# Altium schematic symbol library CMR_Miscellaneous_Devices.SchLib: 110 symbols
Pins are listed as number, name and electrical type; pins without a type are passive.

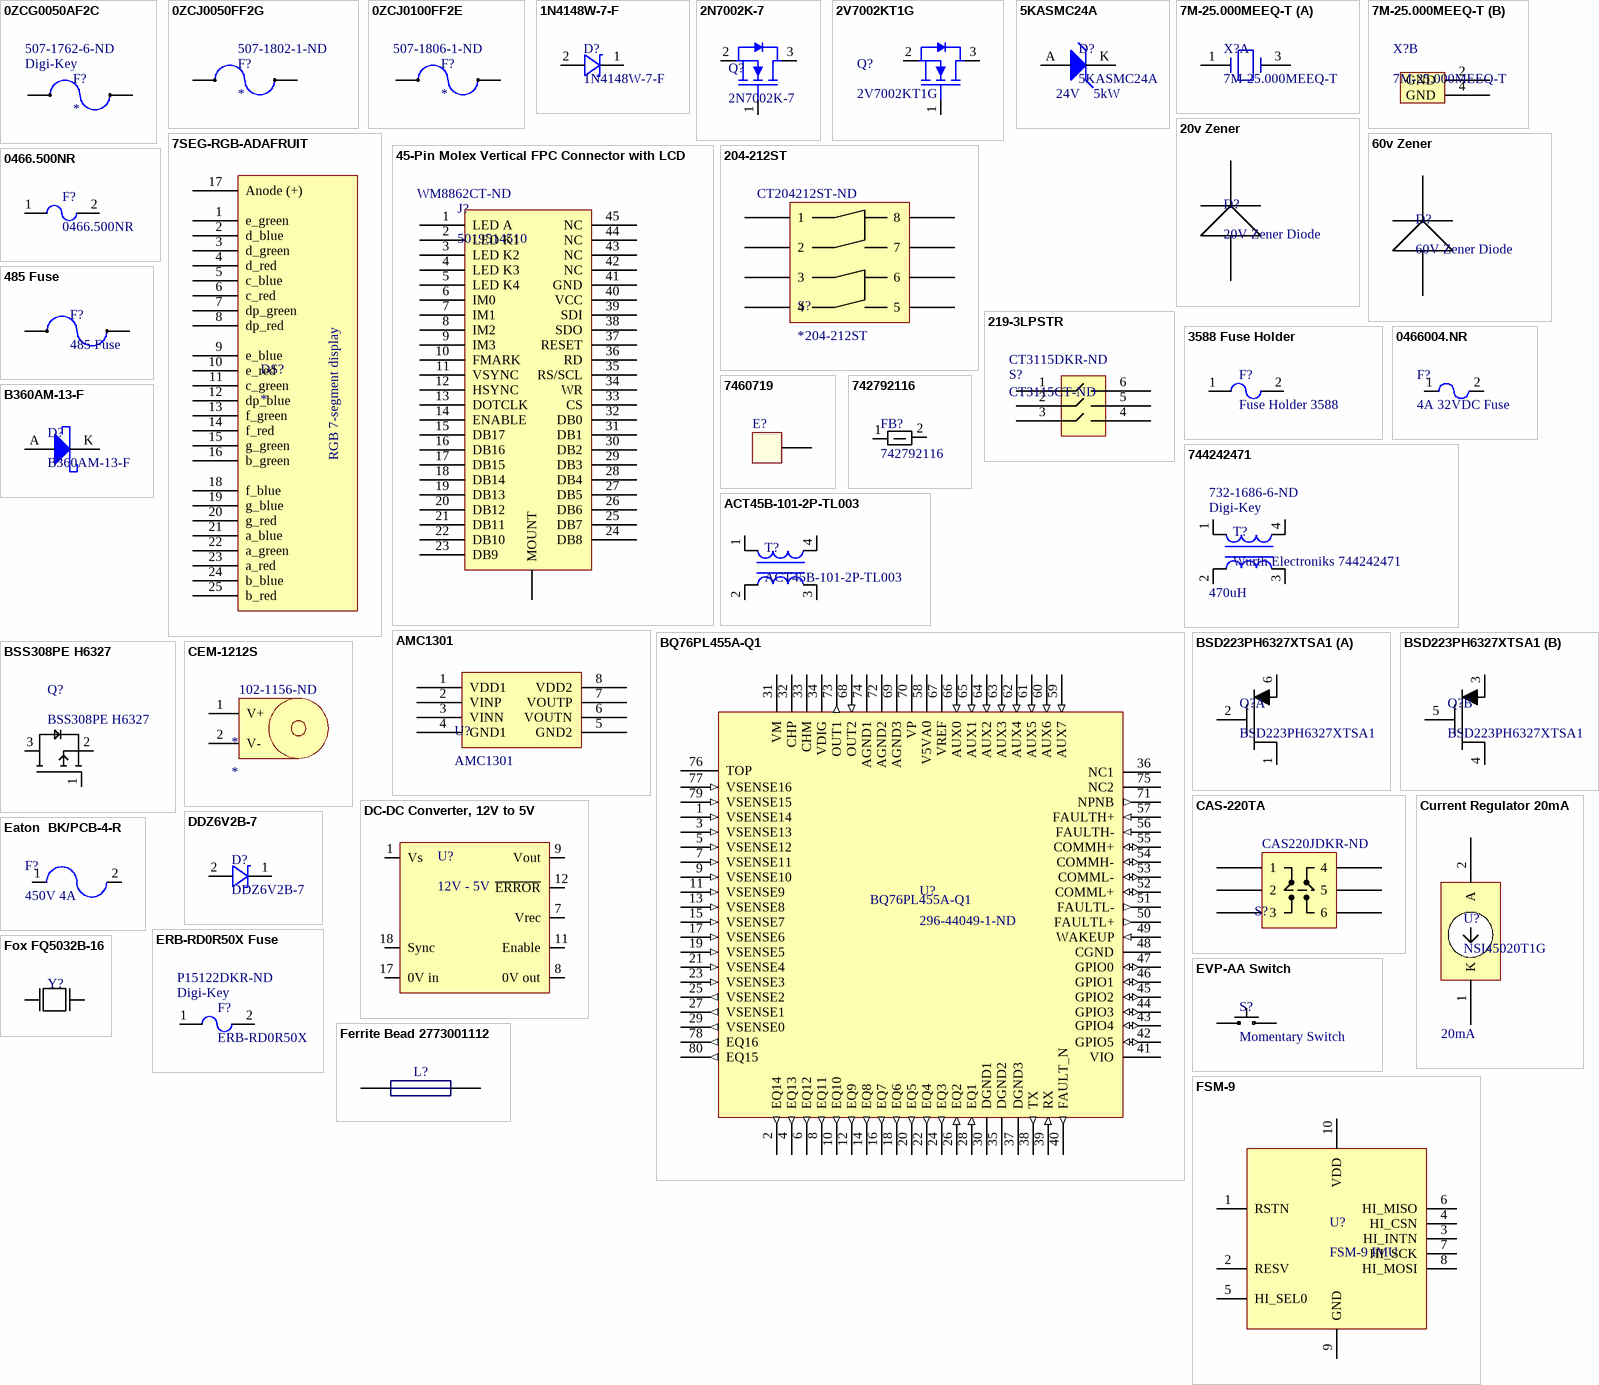
[diagram p0: symbols 0ZCG0050AF2C to FSM-9]

## 0ZCG0050AF2C
designator F?  Supplier 1: Digi-Key  Supplier Part Number 1: 507-1762-6-ND
PTC RESET FUSE 30V 500MA 1812; ComponentLink1Description: Digikey Link; ComponentLink1URL: https://www.digikey.com/product-detail/en/bel-fuse-inc/0ZCG0050AF2C/507-1762-1-ND/4156148
footprint 1812 Resistor Package
pins: 1, 2

## 0ZCJ0050FF2G
designator F?  Supplier Part Number 1: 507-1802-1-ND
PTC RESTTBLE 0.50A 8V CHIP 1206; Supplier 1: Digi-Key
footprint FUSE 3217X06N (PTC Resettable Fuse 8V Ih Surface Mount 1206 (3216 Metric), Concave)
pins: 1, 2

## 0ZCJ0100FF2E
designator F?  Supplier Part Number 1: 507-1806-1-ND
PTC RESTTBLE 1.0A 6V CHIP 1206; Supplier 1: Digi-Key
footprint FUSE 3217X06N (PTC Resettable Fuse 8V Ih Surface Mount 1206 (3216 Metric), Concave)
pins: 1, 2

## 1N4148W-7-F
designator D?
DIODE GEN PURP 100V 300MA SOD123; Supplier: DigiKey; Part Number: 1N4148W-7-F; Supplier Part Number: 1N4148W-FDICT-ND; Datasheet URL: https://www.diodes.com/assets/Datasheets/ds30086.pdf
footprint 1N4148W-7-F
pins: 1 NPNB, 2 NPNB

## 2N7002K-7
designator Q?
MOSFET N-CH 60V 0.38A SOT23-3; Supplier: Digikey; Part Number: 2N7002K-7; Supplier Part Number: 2N7002K-7DICT-ND; Datasheet URL: https://www.diodes.com/assets/Datasheets/ds30896.pdf
footprint 2N7002K-7 (MOSFET N-CH 60V 0.38A SOT23-3)
pins: 1, 2, 3

## 2V7002KT1G
designator Q?
MOSFET N-CH 60V 320MA SOT-23-3; Supplier: DigiKey; Supplier Part Number: 2V7002KT1GOSCT-ND; Part Number: 2V7002KT1G; Datasheet URL: www.mouser.com/ds/2/308/2N7002K-D-40616.pdf
footprint 2V7002KT1G
pins: 1, 2, 3

## 5KASMC24A
designator D?  Power - Peak Pulse: 5kW  Reverse Standoff Voltage: 24V
TVS Diode, Vbr~=28V, 5000W; Supplier 1: Digi-Key; Supplier Part Number 1: 5KASMC24AHM3/57GICT-ND; Datasheet: http://www.vishay.com/docs/89432/5kasmc.pdf
footprint 5KASMC24A
pins: A, K

## 7M-25.000MEEQ-T
designator X?
CRYSTAL 25.0000MHZ 10PF SMD; Manufacturer 1: TXC; Frequency: 25MHz; Frequency Tolerance: 10ppm; ESR (Equivalent Series Resistance): 60R; Supplier 1: Digi-Key; Supplier Part Number 1: 887-1326-1-ND; Manufacturer Part Number 1: 7M-25.000MEEQ-T; Stock 1: 17097; Pricing 1: 1=1.27, 10=1.209, 50=1.1812, 100=1.0125, 500=0.9844, 1000=0.8297 (USD); Mount: Surface Mount; Case/Package: SMD/SMT; Number of Pins: 4; Min Operating Temperature: -20°C; Max Operating Temperature: 70°C; Load Capacitance: 10pF; Packaging: Tape and Reel; Package Quantity: 3000; Tolerance: 10ppm; Frequency Stability: 10ppm; Termination: SMD/SMT; Length: 3.2mm; Height: 0.031inch; Width: 0.098inch; Depth: 2.5mm; REACH SVHC: No SVHC; ComponentLink1URL: https://datasheet.ciiva.com/26918/getdatasheetpartid-757227-26918816.pdf; ComponentLink1Description: https://datasheet.ciiva.com/26918/getdatasheetpartid-757227-26918816.pdf; ComponentLink2URL: https://datasheet.ciiva.com/856/7m-accuracy-856022.pdf; ComponentLink2Description: https://datasheet.ciiva.com/856/7m-accuracy-856022.pdf; ComponentLink3URL: https://datasheet.ciiva.com/22658/1794111-22658486.pdf; ComponentLink3Description: https://datasheet.ciiva.com/22658/1794111-22658486.pdf; ComponentLink4URL: https://datasheet.ciiva.com/856/7m-accuracy-856023.pdf; ComponentLink4Description: https://datasheet.ciiva.com/856/7m-accuracy-856023.pdf; ComponentLink5URL: https://datasheet.ciiva.com/856/7m-accuracy-856024.pdf; ComponentLink5Description: https://datasheet.ciiva.com/856/7m-accuracy-856024.pdf; ComponentLink6URL: https://datasheet.ciiva.com/4946/7m-11184-4946126.pdf; ComponentLink6Description: https://datasheet.ciiva.com/4946/7m-11184-4946126.pdf; ComponentLink7URL: https://datasheet.ciiva.com/28498/1794111-28498878.pdf; ComponentLink7Description: https://datasheet.ciiva.com/28498/1794111-28498878.pdf
footprint OSCSC320X250X100N
part A pins: 1 11, 3
part B pins: 2 GND, 4 GND

## 7SEG-RGB-ADAFRUIT
designator DS?
footprint 7SEG-RGB-ADAFRUIT
pins: 1 e_green, 2 d_blue, 3 d_green, 4 d_red, 5 c_blue, 6 c_red, 7 dp_green, 8 dp_red, 9 e_blue, 10 e_red, 11 c_green, 12 dp_blue, 13 f_green, 14 f_red, 15 g_green, 16 b_green, 17 Anode (+), 18 f_blue, 19 g_blue, 20 g_red, 21 a_blue, 22 a_green, 23 a_red, 24 b_blue, 25 b_red
text: RGB 7-segment display

## 20v Zener
designator D?, comment 20V Zener Diode
footprint UDZS20B (20v Zener)
pins: 1, 2

## 45-Pin Molex Vertical FPC Connector with LCD
designator J?, comment 5019514510  Supplier Part Number 1: WM8862CT-ND
45 pin Molex, 0.50mm pitch, with LCD Display; Manufacturer Part Number: 0541044531; LCD Manufacturer: Displaytech; LCD Manufacturer Part Number: DT028ATFT; Manufacturer: Molex; Datasheet: http://www.molex.com/pdm_docs/sd/541044631_sd.pdf; LCD Datasheet: http://www.mouser.com/ds/2/116/DT028ATFT-v21-221378.pdf; Supplier 1: Digi-Key
footprint LCD Display with FPC Connector (2.8" Displaytech DT028ATFT LCD Display with Molex 0541044531 Right Angle 45-pin FPC Connector)
pins: 0 MOUNT, 1 LED A, 2 LED K1, 3 LED K2, 4 LED K3, 5 LED K4, 6 IM0, 7 IM1, 8 IM2, 9 IM3, 10 FMARK, 11 VSYNC, 12 HSYNC, 13 DOTCLK, 14 ENABLE, 15 DB17, 16 DB16, 17 DB15, 18 DB14, 19 DB13, 20 DB12, 21 DB11, 22 DB10, 23 DB9, 24 DB8, 25 DB7, 26 DB6, 27 DB5, 28 DB4, 29 DB3, 30 DB2, 31 DB1, 32 DB0, 33 CS, 34 WR, 35 RS/SCL, 36 RD, 37 RESET, 38 SDO, 39 SDI, 40 VCC, 41 GND, 42 NC, 43 NC, 44 NC, 45 NC

## 60v Zener
designator D?, comment 60V Zener Diode
footprint MMSZ5264BT1G (60v Zener)
pins: 1, 2

## 204-212ST
designator S?  Supplier Part Number 1: CT204212ST-ND
SWITCH SLIDE DIP DPST 50MA 24V; Supplier 1: Digi-Key
footprint 204-212ST  2 POS DPST (Dip Switch DPST 2 Position Surface Mount Slide (Standard) Actuator 50mA 24VDC)
pins: 1, 2, 3, 4, 5, 6, 7, 8

## 219-3LPSTR
designator S?, comment CT3115CT-ND  Supplier Part Number 1: CT3115DKR-ND
SWITCH SLIDE DIP SPST 100MA 20V; Supplier 1: Digi-Key
footprint 219-3LPSTR (SWITCH SLIDE DIP SPST 100MA 20V)
pins: 1, 2, 3, 4, 5, 6

## 0466.500NR
designator F?
FUSE BOARD MOUNT 500MA 63VAC/VDC; Supplier: DigiKey; Part Number: 0466.500NR; Supplier Part Number: F1454CT-ND; Datasheet URL: http://www.littelfuse.com/~/media/electronics/datasheets/fuses/littelfuse_fuse_466_datasheet.pdf.pdf
footprint 0466.500NR (, 2-Leads, Body 3.18x1.52mm, IPC Medium Density)
pins: 1, 2

## 485 Fuse
designator F?
485 Series Fast-Blow Fuse; Part Number: 0485001.DR; Voltage Rating: 600V; Current Rating: 1A; Datasheet: http://www.littelfuse.com/~/media/electronics/datasheets/fuses/littelfuse_fuse_485_datasheet.pdf.pdf; Package: 2-SMD
footprint 485 Fuse (485 Series Fast-Blow Fuse)
pins: 1, 2

## 3588 Fuse Holder
designator F?, comment Fuse Holder 3588
Keystone Electronics 3588; Supplier 1: Digi-Key; Supplier Part Number 1: 36-3588-ND; Datasheet: http://keyelco.com/userAssets/file/M65p43.pdf
footprint Fuse Holder 3588 (Keystone Electronics 3588 Automotive Blade Fuse Holder, SMT)
pins: 1, 2

## 0466004.NR
designator F?, comment 4A 32VDC Fuse
FUSE BOARD MNT 4A 32VAC/VDC 1206; ComponentLink1Description: Digikey; ComponentLink1URL: https://www.digikey.com/product-detail/en/littelfuse-inc/0466004.NR/F1459CT-ND/521357
footprint CAF-127P152X317-2N (Chip Array, Flat, 2-Leads, Pitch 1.27mm,  Body 1.52x3.18mm,  IPC Medium Density)
pins: 1, 2

## 7460719
designator E?
REDCUBE PRESS-FIT with external thread, full plain WP-SHFU, M8, 13 mm; Part Number: 7460719; Pin Number: 25; Rated Current: 250 A; Thread Length: 13 mm; ComponentLink1Description: Manufacturer; ComponentLink1URL: http://www.we-online.de; ComponentLink2Description: Datasheet; ComponentLink2URL: http://katalog.we-online.de/em/datasheet/7460719.pdf; Published Date: Feb. 2017; Publisher: Wurth Elektronik; Thread: M8
footprint 7460719 (M8, thread 13mm)
pins: 1

## 742792116
designator FB?
FERRITE BEAD 500 OHM 1206 1LN; Datasheet URL: media.digikey.com/PDF/Data Sheets/Wurth Electronics PDFs/742792116.pdf; Supplier: DigiKey; Supplier Part Number: 732-4652-1-ND; Part Number: 742792116
footprint 742792116 (, 2-Leads, Body 3.20x1.60mm, IPC Medium Density)
pins: 1, 2

## 744242471
designator T?, comment Wurth Electroniks 744242471  Inductance: 470uH  Supplier 1: Digi-Key  Supplier Part Number 1: 732-1686-6-ND
470µH @ 100kHz 2 Line Common Mode Choke Surface Mount 2.2 kOhms @ 15MHz 400mA DCR 350 mOhm; ComponentLink1Description: Digikey Link; ComponentLink1URL: https://www.digikey.com/product-detail/en/wurth-electronics-inc/744242471/732-1686-1-ND/1994266; ComponentLink2Description: Datasheet Link; ComponentLink2URL: https://katalog.we-online.de/pbs/datasheet/744242471.pdf
footprint Wurth 744242471
pins: 1, 2, 3, 4

## ACT45B-101-2P-TL003
designator T?
Common Mode Chokes / Filters 5000ohms 100uH 150mA CAN-BUS AEC-Q200; Supplier: DigiKey; Supplier Part Number: 445-3959-1-ND; Part Number: ACT45B-101-2P-TL003; Datasheet URL: www.mouser.com/ds/2/400/e9711_act-469477.pdf
footprint ACT45B-101-2P-TL003 (DFN, 4-Leads, Body 3.20x4.50mm, Pitch 4.55mm, IPC Medium Density)
pins: 1, 2, 3, 4

## AMC1301
designator U?
IC AMP ISOLATION 250MV 8SOIC; Supplier 1: Digi-Key; Supplier Part Number 1: 296-44577-2-ND
footprint SOIC127P1150X280-8N (SOIC, 8-Leads, Body 5.85x7.50mm, Pitch 1.27mm, IPC Medium Density)
pins: 1 VDD1, 2 VINP, 3 VINN, 4 GND1, 5 GND2, 6 VOUTN, 7 VOUTP, 8 VDD2

## B360AM-13-F
designator D?
Schottky Diode B360AM-13-F; Datasheet: http://diodes.com/_files/datasheets/B360AM.pdf; Supplier 1: Digi-Key; Supplier Part Number 1: B360AM-13-FDICT-ND
footprint B360AM-13-F
pins: A, K

## BQ76PL455A-Q1
designator U?, comment 296-44049-1-ND
IC BATT MONITOR/PROTECT 80TQFP; Part Number: BQ76PL455ATPFCRQ1; Supplier: DigiKey; Datasheet URL: http://www.ti.com/lit/ds/symlink/bq76pl455a-q1.pdf; Design Recommendations: http://www.ti.com/lit/an/slua791/slua791.pdf; Supplier Part Number: 6-44049-1-ND
footprint BQ76PL455A-Q1 (TSQFP, 80-Leads, Body 12.00x12.00mm, Pitch 0.50mm, IPC Medium Density)
pins: 1 VSENSE14 (in), 2 EQ14 (out), 3 VSENSE13 (in), 4 EQ13 (out), 5 VSENSE12 (in), 6 EQ12 (out), 7 VSENSE11 (in), 8 EQ11 (out), 9 VSENSE10 (in), 10 EQ10 (out), 11 VSENSE9 (in), 12 EQ9 (out), 13 VSENSE8 (in), 14 EQ8 (out), 15 VSENSE7 (in), 16 EQ7 (out), 17 VSENSE6 (in), 18 EQ6 (out), 19 VSENSE5 (in), 20 EQ5 (out), 21 VSENSE4 (in), 22 EQ4 (out), 23 VSENSE3 (in), 24 EQ3 (out), 25 VSENSE2 (out), 26 EQ2 (in), 27 VSENSE1 (out), 28 EQ1 (in), 29 VSENSE0 (out), 30 DGND1 (power), 31 VM (power), 32 CHP (power), 33 CHM (power), 34 VDIG (power), 35 DGND2 (power), 36 NC1, 37 DGND3 (power), 38 TX (out), 39 RX (in), 40 FAULT_N (out), 41 VIO (power), 42 GPIO5 (io), 43 GPIO4 (io), 44 GPIO3 (io), 45 GPIO2 (io), 46 GPIO1 (io), 47 GPIO0 (io), 48 CGND (power), 49 WAKEUP (in), 50 FAULTL+ (out), 51 FAULTL- (out), 52 COMML+ (io), 53 COMML- (io), 54 COMMH- (io), 55 COMMH+ (io), 56 FAULTH- (in), 57 FAULTH+ (in), 58 V5VA0 (power), 59 AUX7 (in), 60 AUX6 (in), 61 AUX5 (in), 62 AUX4 (in), 63 AUX3 (in), 64 AUX2 (in), 65 AUX1 (in), 66 AUX0 (in), 67 VREF (power), 68 OUT2 (in), 69 AGND3 (power), 70 VP (power), 71 NPNB (out), 72 AGND2 (power), 73 OUT1 (out), 74 AGND1 (power), 75 NC2, 76 TOP (power), 77 VSENSE16 (in), 78 EQ16 (out), 79 VSENSE15 (in), 80 EQ15 (out)

## BSD223PH6327XTSA1
designator Q?
dual p-channel mosfet; Manufacturer 1: Infineon; Drain to Source Voltage (Vdss): -20V; Continuous Drain Current (ID): 390mA; Rds On Max: 1.2R; Input Capacitance: 56pF; Max Power Dissipation: 250mW; Turn-On Delay Time: 3.8ns; Rise Time: 5ns; Turn-Off Delay Time: 5.1ns; Gate to Source Voltage (Vgs): 12V; Supplier 1: Digi-Key; Supplier Part Number 1: BSD223PH6327XTSA1CT-ND; Manufacturer Part Number 1: BSD223PH6327XTSA1; Stock 1: 77806; Pricing 1: 1=0.56, 10=0.398, 100=0.2615, 500=0.1545, 1000=0.1189 (USD); Mount: Surface Mount; Case/Package: SOT-363; Number of Pins: 6; Min Operating Temperature: -55°C; Max Operating Temperature: 150°C; Packaging: Tape and Reel; Drain to Source Resistance: 1.2R; Max Dual Supply Voltage: -20V; Length: 2mm; Height: 0.8mm; Width: 1.25mm; Lead Free: Lead Free; Halogen Free: Halogen Free; ComponentLink1URL: http://www.farnell.com/datasheets/2211530.pdf; ComponentLink1Description: http://www.farnell.com/datasheets/2211530.pdf; ComponentLink2URL: http://components.arrow.com/part/dataview/53770121S151981N2051; ComponentLink2Description: http://components.arrow.com/part/dataview/53770121S151981N2051; ComponentLink3URL: https://www.infineon.com/dgdl/BSD223P_Rev1.5.pdf?folderId=db3a304314dca38901154a72e3951a65&fileId=db3a30433580b37101358619d0af33b9; ComponentLink3Description: https://www.infineon.com/dgdl/BSD223P_Rev1.5.pdf?folderId=db3a304314dca38901154a72e3951a65&fileId=db3a30433580b37101358619d0af33b9; ComponentLink4URL: http://www.infineon.com/dgdl/Infineon-BSD223P-DS-v01_06-EN.pdf?fileId=5546d4624b0b249c014b3607ad2610c8; ComponentLink4Description: http://www.infineon.com/dgdl/Infineon-BSD223P-DS-v01_06-EN.pdf?fileId=5546d4624b0b249c014b3607ad2610c8; ComponentLink5URL: http://www.infineon.com/dgdl/BSD223P_Rev1.5.pdf?folderId=db3a304314dca38901154a72e3951a65&fileId=db3a30433580b37101358619d0af33b9; ComponentLink5Description: http://www.infineon.com/dgdl/BSD223P_Rev1.5.pdf?folderId=db3a304314dca38901154a72e3951a65&fileId=db3a30433580b37101358619d0af33b9
footprint PG-SOT-363 (SOT23, 6-Leads, Body 2.00x2.15mm, Pitch 0.65mm, IPC Medium Density)
part A pins: 1, 2, 6
part B pins: 3, 4, 5

## BSS308PE H6327
designator Q?
MOSFET P-Ch -30V -2A SOT-23-3; Supplier: Mouser; Part Number: BSS308PE H6327; Supplier Part Number: 726-BSS308PEH6327; Datasheet URL: http://www.mouser.com/ds/2/196/BSS308PE_Rev2.03_-88579.pdf
pins: 1, 2, 3

## CAS-220TA
designator S?  Supplier Part Number 1: CAS220JDKR-ND  (hidden comment: *)
SWITCH SLIDE DPDT 100MA 6V; Supplier 1: Digi-Key
footprint CAS-220
pins: 1, 2, 3, 4, 5, 6

## CEM-1212S
designator *  Supplier Part Number 1: 102-1156-ND
AUDIO MAGNETIC XDCR 6-16V TH; Manufacturer: CUI Inc.; Manufacturer Part Number: CEM-1212S; Driver Circuitry: Transducer, Externally Driven; Input Type: Zero-Peak Signal; Voltage - Rated: 12V; Voltage Range: 6 ~ 16V; Frequency: 2.4kHz; Operating Mode: Single Tone; Sound Pressure Level: 85dB @ 12V, 10cm; Current - Supply: 40mA; Port Location: Top; Ratings: Washable; Supplier 1: Digi-Key; RoHS: RoHS Compliant; Category: Audio Products; Stock 1: 21467; Pricing 1: 1=1.31, 10=1.018, 100=0.7763, 500=0.621, 1000=0.552, 2500=0.45885 (USD); Packaging: Bulk; Part Status: Active; Technology: Magnetic; Duration: -; Operating Temperature: -20°C ~ 60°C; Approvals: -; Mounting Type: Through Hole; Termination: PC Pins; Size / Dimension: 12.0mm Dia x 10.0mm H; Height - Seated (Max): *; ComponentLink1URL: http://www.cui.com/product/resource/digikeypdf/cem-1212s.pdf; ComponentLink1Description: http://www.cui.com/product/resource/digikeypdf/cem-1212s.pdf
footprint CEM-1212S
pins: 1 V+, 2 V-

## Current Regulator 20mA
designator U?, comment NSI45020T1G  Current: 20mA
20mA Current regulator SOD-123. 208mW; Manufacturer: ON Semiconductor; Supplier 1: Digi-Key; Supplier Part Number 1: NSI45020T1GOSTR-ND; Manufacturer Part Number: NSI45020T1G; Datasheet: http://www.onsemi.com/pub_link/Collateral/NSI45020-D.PDF
footprint NSI45020 (SOD-123 Package Constant Current Regulator, 20mA)
pins: 1 K, 2 A

## DC-DC Converter, 12V to 5V
designator U?, comment 12V - 5V
DigiKey 296-9458-5-ND
footprint NVE (R-PDIP-T10/18)
pins: 1 Vs, 7 Vrec, 8 0V out, 9 Vout, 11 Enable, 12 ~{ERROR}, 17 0V in, 18 Sync

## DDZ6V2B-7
designator D?
DIODE ZENER 6.2V 500MW SOD123; Supplier: DigiKey; Part Number: DDZ6V2B-7; Datasheet URL: https://www.diodes.com/assets/Datasheets/ds30407.pdf; Supplier Part Number: DDZ6V2BDICT-ND
footprint DDZ6V2B-7
pins: 1 NPNB, 2 NPNB

## Eaton  BK/PCB-4-R
designator F?, comment 450V 4A
450V 4A 2.5kA Breaking; ComponentLink1Description: digikey; ComponentLink1URL: https://www.digikey.com/product-detail/en/littelfuse-inc/0456040.DR/F3364CT-ND/2080265
footprint BK/PCB-4-R
pins: 1, 2

## ERB-RD0R50X Fuse
designator F?, comment ERB-RD0R50X  Supplier 1: Digi-Key  Supplier Part Number 1: P15122DKR-ND
FUSE BOARD MNT 500MA 32VDC 0402; ComponentLink1Description: Digikey Link; ComponentLink1URL: https://www.digikey.com/product-detail/en/panasonic-electronic-components/ERB-RD0R50X/P15122CT-ND/2796798; ComponentLink2Description: Datasheet Link; ComponentLink2URL: https://industrial.panasonic.com/cdbs/www-data/pdf/AFA0000/AFA0000C7.pdf
footprint 0402 Fuse
pins: 1, 2

## EVP-AA Switch
designator S?, comment Momentary Switch
EVP-AA Momentary Switch SPST-NO; Part Number: EVP-AA202K; Supplier 1: Digi-Key; Supplier Part Number 1: P13348SCT-ND; Datasheet: http://industrial.panasonic.com/lecs/www-data/pdf/ATK0000/ATK0000CE26.pdf
footprint EVP-AA202K (Momentary Switch SMT SPST-NO EVP-AA series)
pins: 1, 2

## Ferrite Bead 2773001112
designator L?  (value not drawn)
73 Material Fair-rite ferrite bead; Part #: 2773001112; Manufacturer: Fair-rite
footprint Fair-rite 2773001112 (2773001112 Ferrite Bead)
pins: 1, 2

## Fox FQ5032B-16
designator Y?
16MHz Crystal
footprint FQ 5032B
pins: 1, 3

## FSM-9
designator U?, comment FSM-9 IMU
Hillcrest Labs FSM-9 9-axis IMU and AHRS; Supplier 1: Hillcrest Labs; Supplier Part Number 1: FSM-9; Datasheet: http://hillcrestlabs.com/download/2416/; Created By: semerson
footprint FSM-9 (Hillcrest Labs FSM-9 9-axis IMU/AHRS)
pins: 1 RSTN, 2 RESV, 3 HI_INTN, 4 HI_CSN, 5 HI_SEL0, 6 HI_MISO, 7 HI_SCK, 8 HI_MOSI, 9 GND, 10 VDD

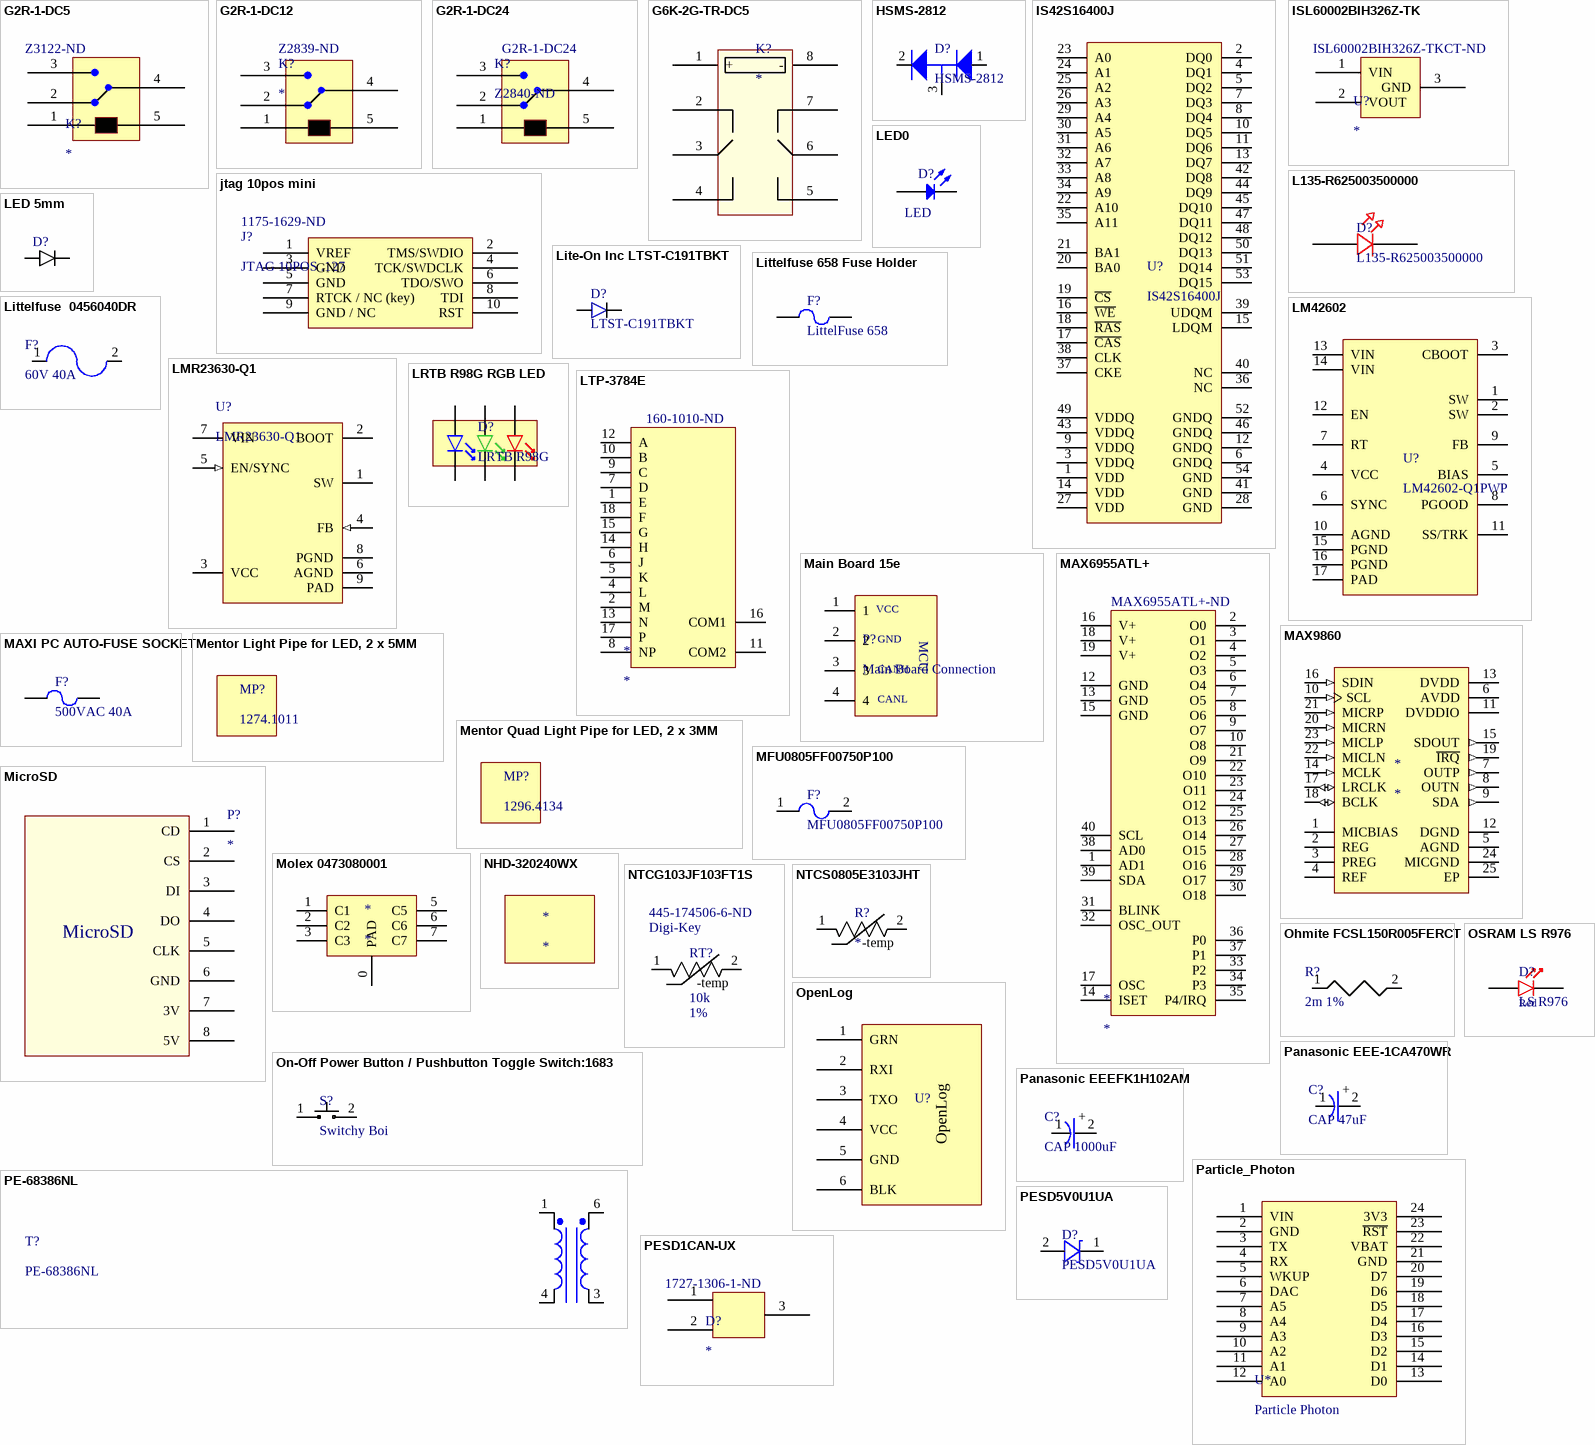
[diagram p1: symbols G2R-1-DC5 to PESD5V0U1UA]

## G2R-1-DC5
designator K?  Supplier Part Number 1: Z3122-ND
RELAY GEN PURPOSE SPDT 10A 5V; Supplier 1: Digi-Key
footprint G2R-1 (G2R-1 RELAY GEN PURPOSE SPDT)
pins: 1 18, 2 21, 3 20, 4 19, 5 22

## G2R-1-DC12
designator K?  Supplier Part Number 1: Z2839-ND
RELAY GEN PURPOSE SPDT 10A 12V; Value: Value; Type: Type; RefDes: RefDes; Supplier 1: Digi-Key
footprint G2R-1 (G2R-1 RELAY GEN PURPOSE SPDT)
pins: 1 18, 2 21, 3 20, 4 19, 5 22

## G2R-1-DC24
designator K?, comment Z2840-ND
RELAY GEN PURPOSE SPDT 10A 24V; RefDes: RefDes; Supplier Part Number 1: Z2840-ND; Supplier 1: Digi-Key; Type: Type; Value: Value
footprint G2R-1 (G2R-1 RELAY GEN PURPOSE SPDT)
pins: 1 18, 2 21, 3 20, 4 19, 5 22

## G6K-2G-TR-DC5
designator K?
MPN: G6K-2G-TR DC5
footprint G6K-2G
pins: 1 +, 2 NO1, 3 OUT1, 4 NC1, 5 NC2, 6 OUT2, 7 NO2, 8 -

## HSMS-2812
designator D?
Schottky Diodes & Rectifiers 20 VBR 1.2 pF; Part Number: HSMS-2812-BLKG; Supplier: Mouser; Datasheet: http://www1.futureelectronics.com/doc/AVAGO%20TECHNOLOGIES/HSMS-2812-TR1G.pdf; Supplier Part Number: 630-HSMS-2812-BLKG
footprint SOT23-HSMS-2812 (SOT23, 3-Leads, Body 2.93x2.40mm, Pitch 0.95mm, IPC Medium Density)
pins: 1, 2, 3

## IS42S16400J
designator U?
64Mbit SDRAM; Manufacturer: ISSI; Datasheet: http://www.mouser.com/ds/2/198/42-45S16400J-258565.pdf; Manufacturer Part Number: IS42S16400J; Supplier 1: Mouser; Supplier Part Number 1: 870-IS42S16400J-7TL
footprint IS42S16400J (64Mbit SDRAM)
pins: 1 VDD, 2 DQ0, 3 VDDQ, 4 DQ1, 5 DQ2, 6 GNDQ, 7 DQ3, 8 DQ4, 9 VDDQ, 10 DQ5, 11 DQ6, 12 GNDQ, 13 DQ7, 14 VDD, 15 LDQM, 16 ~{WE}, 17 ~{CAS}, 18 ~{RAS}, 19 ~{CS}, 20 BA0, 21 BA1, 22 A10, 23 A0, 24 A1, 25 A2, 26 A3, 27 VDD, 28 GND, 29 A4, 30 A5, 31 A6, 32 A7, 33 A8, 34 A9, 35 A11, 36 NC, 37 CKE, 38 CLK, 39 UDQM, 40 NC, 41 GND, 42 DQ8, 43 VDDQ, 44 DQ9, 45 DQ10, 46 GNDQ, 47 DQ11, 48 DQ12, 49 VDDQ, 50 DQ13, 51 DQ14, 52 GNDQ, 53 DQ15, 54 GND

## ISL60002BIH326Z-TK
designator U?  Supplier Part Number 1: ISL60002BIH326Z-TKCT-ND
IC VREF SERIES 2.6V SOT23-3; Supplier 1: Digi-Key
footprint SOT23-HSMS-2812 (SOT23, 3-Leads, Body 2.93x2.40mm, Pitch 0.95mm, IPC Medium Density)
pins: 1 VIN, 2 VOUT, 3 GND

## jtag 10pos mini
designator J?, comment JTAG 10POS .127  Supplier Part Number 1: 1175-1629-ND
Supplier 1: Digi-Key
footprint 5x2 JTAG SMD
pins: 1 VREF, 2 TMS/SWDIO, 3 GND, 4 TCK/SWDCLK, 5 GND, 6 TDO/SWO, 7 RTCK / NC (key), 8 TDI, 9 GND / NC, 10 RST

## L135-R625003500000
designator D?
LED Lighting Color LUXEON 3535L Red 625nm (620nm ~ 630nm) 2-SMD, Flat Lead; Part Number: L135-R625003500000; Supplier 1: Digi-Key; Supplier Part Number 1: 1416-1493-1-ND; Datasheet: http://www.lumileds.com/uploads/565/DS146-pdf; Manufacturer: Luxeon
footprint L135-R625003500000 (LUXEON 3535L Color Line)
pins: 1, 2

## LED0
designator D?, comment LED
Manufacturer: Lite-On Inc; Manufacturer Part Number: LTST-C171AKT; Color: Red; Wavelength - Dominant: 631nm; Wavelength - Peak: 639nm; Millicandela Rating: 54mcd; Voltage - Forward (Vf) (Typ): 2V; Current - Test: 20mA; Viewing Angle: 130°; Lens Type: Clear; Lens Style/Size: Rectangle with Flat Top, 1.4mm x 1.25mm; Published: 8-Jun-2000; LatestRevisionDate: 08-Jul-2005; LatestRevisionNote: Mech Layer 1 removed.; PackageReference: LED-0; Publisher: Altium Limited; PackageDescription: LED; 2 Leads; Supplier 1: Digi-Key; Supplier Part Number 1: 160-1419-1-ND; RoHS: RoHS Compliant; Category: Optoelectronics; Stock 1: 72989; Pricing 1: 1=0.32, 10=0.248, 100=0.135, 250=0.09, 500=0.0765, 1000=0.0585 (USD); Packaging: Cut Tape (CT); Package / Case: 0805 (2012 Metric); Size / Dimension: 2.00mm L x 1.25mm W; Height: 0.80mm; Mounting Type: Surface Mount; Luminous Flux @ Current - Test: -; ComponentLink1URL: http://optoelectronics.liteon.com/upload/download/DS22-2000-109/S_110_LTST-C171KRKT.pdf; ComponentLink1Description: http://optoelectronics.liteon.com/upload/download/DS22-2000-109/S_110_LTST-C171KRKT.pdf
footprint LED-0 (LED; 2 Leads)
simulation model LED0 (Diode)
footprint 0402 LED (0402 LED Package)
footprint 0603 - LED
footprint LED_0805 (Liteon 0805 Chip LED)
footprint 1206 LED
pins: 1 K, 2 A

## LED 5mm
designator D?
footprint LED 5mm
pins: 1, 2

## Lite-On Inc LTST-C191TBKT
designator D?, comment LTST-C191TBKT
LED 468NM BLUE CLEAR 0603 SMD; Vf @ 20mA: 3.4V (typ); Derated Current: 5 mA; Color: Blue; PN: LTST-C191TBKT
footprint Lite-On Inc LTST-C191TBKT (LED 468NM BLUE CLEAR 0603 SMD)
pins: 0, 1

## Littelfuse 658 Fuse Holder
designator F?, comment LittelFuse 658
LittelFuse 658 Series Fuse Holder; Rated Current: 10A; Rated Voltage: 250; Contact Resistance: 5mOhm; Rated Power: 4W (with 660 or no cover); Datasheet: http://www.littelfuse.com/data/en/data_sheets/658_659_660_lf_050519.pdf
footprint LittelFuse 658 Series Fuse Holder (Fuse Holder)
pins: 1, 2

## Littelfuse  0456040DR
designator F?, comment 60V 40A
60V 40A 600A Breaking; ComponentLink1Description: digikey; ComponentLink1URL: https://www.digikey.com/product-detail/en/littelfuse-inc/0456040.DR/F3364CT-ND/2080265
footprint 0456040DR
pins: 1, 2

## LM42602
designator U?, comment LM42602-Q1PWP
Simple Switcher 3.5V to 36V 2A Synchronous Step-Down Voltage Converter; Manufacturer: Texas Instruments; Manufacturer Part Number: LM43602-Q1; Datasheet: http://www.ti.com/lit/ds/symlink/lm43602-q1.pdf; Input Voltage Range: 3.5V to 36V; Output Current: 2A; Supplier 1: Digi-Key; Supplier Part Number 1: 296-42119-1-ND
footprint LM43602-Q1 (SIMPLE SWITCHER 3.5V TO 36V INPUT 2A OUTPUT)
pins: 1 SW, 2 SW, 3 CBOOT, 4 VCC, 5 BIAS, 6 SYNC, 7 RT, 8 PGOOD, 9 FB, 10 AGND, 11 SS/TRK, 12 EN, 13 VIN, 14 VIN, 15 PGND "SW", 16 PGND, 17 PAD

## LMR23630-Q1
designator U?
Manufacturer: Texas Instruments; Manufacturer Part Number: LMR23630AFQDDARQ1; Function: Step-Down; Output Configuration: Positive; Topology: Buck; Output Type: Adjustable; Number of Outputs: 1; Voltage - Input (Min): 4.5V; Voltage - Input (Max): 36V; Voltage - Output (Min/Fixed): 1V; Voltage - Output (Max): 28V; Current - Output: 3A; Frequency - Switching: 400kHz; Synchronous Rectifier: Yes; Supplier 1: Digi-Key; RoHS: RoHS Compliant; Category: Integrated Circuits (ICs); Stock 1: 1636; Pricing 1: 1=3.97, 10=3.564, 100=2.9204, 500=2.48604, 1000=2.09667 (USD); Packaging: Digi-Reel®; Part Status: Active; Operating Temperature: -40°C ~ 125°C (TJ); Mounting Type: Surface Mount; Package / Case: 8-SOIC (0.154", 3.90mm Width) Exposed Pad; Supplier Device Package: 8-SO PowerPad; ComponentLink1URL: http://www.ti.com/lit/ds/symlink/lmr23630-q1.pdf; ComponentLink1Description: http://www.ti.com/lit/ds/symlink/lmr23630-q1.pdf; Supplier Part Number 1: 296-45260-6-ND
footprint DDA0008E_N (SOP, 8-Leads, Body 4x5mm, Pitch 1.27mm, Thermal Pad 2.4x3.1mm, IPC Medium Density)
pins: 1 SW, 2 BOOT, 3 VCC, 4 FB (in), 5 EN/SYNC (in), 6 AGND, 7 VIN, 8 PGND, 9 PAD

## LRTB R98G RGB LED
designator D?, comment LRTB R98G
L98B R98G SMT RGB LED; Manufacturer: OSRAM; Datasheet: http://www.osram-os.com/Graphics/XPic9/00196779_0.pdf/LRTB%20R98G%20-%20Multi%20CHIPLED.pdf; Manufacturer Part Number: LRTB R98G; Supplier 1: Mouser; Supplier Part Number 1: 720-LRTBR98GR5T1S7T7
footprint LRTB R98G RGB LED (OSRAM SMT RGB LED LRTB R98G)
pins: 1, 2, 3, 4, 5, 6

## LTP-3784E
designator *  Supplier Part Number 1: 160-1010-ND
LED ALPHNUM.54" 2DGT RED-ORNG CC; Manufacturer: Lite-On Inc.; Manufacturer Part Number: LTP-3784E; Number of Characters: 2; Digit/Alpha Size: 0.54" (13.72mm); Display Type: 14-Segment, Alphanumeric; Common Pin: Common Cathode; Voltage - Forward (Vf) (Typ): 2V; Current - Test: 20mA; Millicandela Rating: 2.3mcd; Wavelength - Peak: 630nm; Power Dissipation (Max): 75mW; Supplier 1: Digi-Key; RoHS: RoHS Compliant; Category: Optoelectronics; Stock 1: 4674; Pricing 1: 1=3.78, 10=3.154, 25=2.6492, 100=2.2707, 250=2.0184, 500=1.82918, 1000=1.6778, 2500=1.60841, 5000=1.57688 (USD); Packaging: Tube; Part Status: Active; Size / Dimension: 0.833" H x 0.989" W x 0.307" D (21.15mm x 25.12mm x 7.80mm); Color: Orange-Red; Package / Case: 18-DIP; ComponentLink1URL: http://optoelectronics.liteon.com/upload/download/DS-30-96-084/S_110_P3784E.pdf; ComponentLink1Description: http://optoelectronics.liteon.com/upload/download/DS-30-96-084/S_110_P3784E.pdf
footprint Lite-On LTP-3784E
pins: 1 E, 2 M, 4 L, 5 K, 6 J, 7 D, 8 NP, 9 C, 10 B, 11 COM2, 12 A, 13 N, 14 H, 15 G, 16 COM1, 17 P, 18 F

## Main Board 15e
designator P?, comment Main Board Connection
15e's Main Board
footprint Main Board 15e (15e Main Board connection for DAQ node)
pins: 1, 2, 3, 4
text: VCC; MCU; GND; CANH; CANL

## MAX6955ATL+
designator *  Supplier Part Number 1: MAX6955ATL+-ND
IC DRVR DSPL LED 40-TQFN; Manufacturer: Maxim Integrated; Manufacturer Part Number: MAX6955ATL+; Configuration: 7, 14, 16 Segment; Interface: I²C; Current - Supply: 22mA; Voltage - Supply: 2.7 V ~ 5.5 V; Supplier 1: Digi-Key; RoHS: RoHS Compliant; Category: Integrated Circuits (ICs); Stock 1: 171; Pricing 1: 1=16.05, 10=15.248, 25=12.57, 50=11.9416, 250=11.571, 500=10.2765 (USD); Packaging: Tube; Part Status: Active; Display Type: LED; Digits or Characters: -; Operating Temperature: -40°C ~ 125°C; Mounting Type: Surface Mount; Package / Case: 40-WFQFN Exposed Pad; Supplier Device Package: 40-TQFN-EP (6x6); ComponentLink1URL: http://datasheets.maximintegrated.com/en/ds/MAX6955.pdf; ComponentLink1Description: http://datasheets.maximintegrated.com/en/ds/MAX6955.pdf
footprint QFN50P600X600X80_HS-41N (QFN, 40-Leads, Body 6.00x6.00mm, Pitch 0.50mm, Thermal Pad 4.10x4.10mm, IPC Medium Density)
pins: 1 AD1, 2 O0, 3 O1, 4 O2, 5 O3, 6 O4, 7 O5, 8 O6, 9 O7, 10 O8, 12 GND, 13 GND, 14 ISET, 15 GND, 16 V+, 17 OSC, 18 V+, 19 V+, 21 O9, 22 O10, 23 O11, 24 O12, 25 O13, 26 O14, 27 O15, 28 O16, 29 O17, 30 O18, 31 BLINK, 32 OSC_OUT, 33 P2, 34 P3, 35 P4/IRQ, 36 P0, 37 P1, 38 AD0, 39 SDA, 40 SCL

## MAX9860
designator *
footprint MAX9860
pins: 1 MICBIAS, 2 REG, 3 PREG, 4 REF, 5 AGND (power), 6 AVDD (power), 7 OUTP (out), 8 OUTN (out), 9 SDA (out), 10 SCL (in), 11 DVDDIO (power), 12 DGND (power), 13 DVDD (power), 14 MCLK (in), 15 SDOUT (out), 16 SDIN (in), 17 LRCLK (io), 18 BCLK (io), 19 ~{IRQ} (out), 20 MICRN (in), 21 MICRP (in), 22 MICLN (in), 23 MICLP (in), 24 MICGND (power), 25 EP (power)

## MAXI PC AUTO-FUSE SOCKET
designator F?, comment 500VAC 40A
FUSE BLOCK BLADE 500V 40A PCB; Manufacturer Part Number: 3555-2; Manufacturer: Keystone Electronics; Voltage Rating: 500V (AC); Current Rating: 40A; Datasheet URL: http://www.keyelco.com/userAssets/file/M60-2p38.pdf
footprint MAXI PC AUTO-FUSE SOCKET (FUSE BLOCK BLADE 500V 40A PCB)
pins: 1, 2

## Mentor Light Pipe for LED, 2 x 5MM
designator MP?, comment 1274.1011
Single LED Light Guide - 2mm x 5mm, 15mm height; Manufacturer: Mentor; Manufacturer Part Number: 1274.1011; Datasheet: http://www.tme.eu/en/Document/145e8fcdcc8fe86a85cd92160bd5d5db/1274.1011.pdf; Supplier 1: Farnell; Supplier Part Number 1: 2300569
footprint MENTOR 1274.1011 (MENTOR LIGHTPIPE FOR LED, 2 x 5MM)

## Mentor Quad Light Pipe for LED, 2 x 3MM
designator MP?, comment 1296.4134
LED Light Guide Array - 2mm x 3mm, 15mm height, 4 guides; Manufacturer: Mentor; Manufacturer Part Number: 1296.4134; Datasheet: http://www.farnell.com/datasheets/1693513.pdf; Supplier 1: Farnell; Supplier Part Number 1: 2300661
footprint MENTOR 1296.4134 (MENTOR QUAD LIGHTPIPE FOR LED, 2 x 3MM)

## MFU0805FF00750P100
designator F?
750mA, 32Vdc, SMT, Fast Blow, 0805; Breaking Capacity: 50 A; Current Rating: 750 mA; Voltage Rating: 32 Vdc; Package: 0805; Supplier 1: Digi-Key; Supplier Part Number 1: MFU0805.75CT-ND
footprint MFU Series 0805 (SMT Fuse, 0805, Vishay MFU Series)
pins: 1, 2

## MicroSD
designator P?
MicroSD card reader
footprint MicroSD
pins: 1 CD, 2 CS, 3 DI, 4 DO, 5 CLK, 6 GND, 7 3V, 8 5V

## Molex 0473080001
designator *
CONN SIM CARD PUSH-PULL R/A SMD
footprint Molex 0473080001
pins: 0 PAD, 1 C1, 2 C2, 3 C3, 5 C5, 6 C6, 7 C7

## NHD-320240WX
designator *
footprint NHD-320240WX (LCD Display)

## NTCG103JF103FT1S
designator RT?, comment value 10k  Tolerance: 1%  Supplier 1: Digi-Key  Supplier Part Number 1: 445-174506-6-ND  (hidden comment: NTC THERMISTOR 10K OHM 1% 0402)
Datasheet: http://www.bitechnologies.com/pdfs/22.pdf
footprint NTCG103JF103FT1S
pins: 1, 2
text: -temp

## NTCS0805E3103JHT
designator R?
NTC THERMISTOR R_25C = 10k, B=3380K; mfg p#: NTCG163JF103FTDS; Supplier Part #: 445-174516-1-ND; Datasheet: https://product.tdk.com/info/en/catalog/datasheets/503022/tpd_automotive_ntc-thermistor_ntcg_en.pdf
footprint 0603 NTC Thermistor (THERMISTOR NTC 10KOHM 3380K 0603)
pins: 1, 2
text: -temp

## Ohmite FCSL150R005FERCT
designator R?, comment 2m 1%
2m 1% 10W SMD Shunt Resistor; ComponentLink1Description: digikey; ComponentLink1URL: https://www.digikey.com/product-detail/en/ohmite/FCSL150R005FER/FCSL150R005FERCT-ND/4976432
footprint FCSL150
pins: 1, 2

## On-Off Power Button / Pushbutton Toggle Switch:1683
designator S?, comment Switchy Boi
On-Off Power Button / Pushbutton Toggle Switch:1683
footprint Pushbutton Toggle Switch (On-Off Power Button / Pushbutton Toggle Switch:1683)
pins: 1, 2

## OpenLog
designator U?  (value not drawn)
Open Source Data Logger; Datasheet: https://github.com/sparkfun/OpenLog/wiki/datasheet
footprint OpenLog (Openlog serial data logger)
pins: 1 GRN, 2 RXI, 3 TXO, 4 VCC, 5 GND, 6 BLK

## OSRAM LS R976
designator D?, comment LS R976  Color: Red
OSRAM CHIPLED 0805 Red, LSR976; Datasheet: http://www.osram-os.com/Graphics/XPic8/00078896_0.pdf; Manufacturer: OSRAM; Manufacturer Part Number: LS R976; Supplier 1: Digi-Key; Supplier Part Number 1: 475-1278-1-ND
footprint OSRAM LS R976 (OSRAM CHIPLED 0805 RED)
pins: 1, 2

## Panasonic EEE-1CA470WR
designator C?, comment CAP 47uF
16V 47uF Electrolytic Capacitor; Part: PCE4848CT-ND; Rated Voltage: 50 V; Capacitance: 1000 uF; Tolerance: 20%; Chemistry: Aluminum Electrolytic; Supplier: Digikey; ComponentLink1Description: digikey; ComponentLink1URL: https://www.digikey.com/product-detail/en/panasonic-electronic-components/EEE-1CA470WR/PCE3890TR-ND/766057
footprint EEE-1CA470WR
pins: 1, 2
text: +

## Panasonic EEEFK1H102AM
designator C?, comment CAP 1000uF
50V 1000uF Electrolytic Capacitor; Part: PCE4848CT-ND; Tolerance: 20%; Chemistry: Aluminum Electrolytic; Rated Voltage: 50 V; Capacitance: 1000 uF; Supplier: Digikey; ComponentLink1Description: Digikey; ComponentLink1URL: https://www.digikey.com/product-detail/en/panasonic-electronic-components/EEE-FK1H102AM/PCE4848CT-ND/1879879
footprint EEEFK1H102AM
pins: 1, 2
text: +

## Particle_Photon
designator U*, comment Particle Photon
footprint Particle Photon
footprint PARTICLE_PHOTON_SMD
pins: 1 VIN, 2 GND, 3 TX, 4 RX, 5 WKUP, 6 DAC, 7 A5, 8 A4, 9 A3, 10 A2, 11 A1, 12 A0, 13 D0, 14 D1, 15 D2, 16 D3, 17 D4, 18 D5, 19 D6, 20 D7, 21 GND, 22 VBAT, 23 ~{RST}, 24 3V3

## PE-68386NL
designator T?
Transformers Audio & Signal THT Gate Drive 785uH .6Ohms; Part Number: PE-68386NL; Supplier: Mouser; Supplier Part Number: 673-PE-68386NL; Datasheet URL: www.mouser.com/ds/2/336/-179963.pdf
pins: 1, 3, 4, 6

## PESD1CAN-UX
designator D?  Supplier Part Number 1: 1727-1306-1-ND
TVS DIODE 24VWM 50VC SC70; Supplier 1: Digi-Key
footprint SOT65P210X110-3N (SOT23, 3-Leads, Body 2.00x2.10mm, Pitch 0.65mm, IPC Medium Density)
pins: 1, 2, 3

## PESD5V0U1UA
designator D?
TVS DIODE 5VWM SOD3232; Part Number: PESD5V0U1UA,115; Supplier: DigiKey; Supplier Part Number: 568-4670-1-ND; Datasheet URL: http://assets.nexperia.com/documents/data-sheet/PESD5V0U1UA_UB_UL.pdf
footprint PESD5V0U1UA (SODFL, 2-Leads, Body 1.25x2.50mm, IPC Medium Density)
pins: 1 NPNB (oc), 2 NPNB (oc)

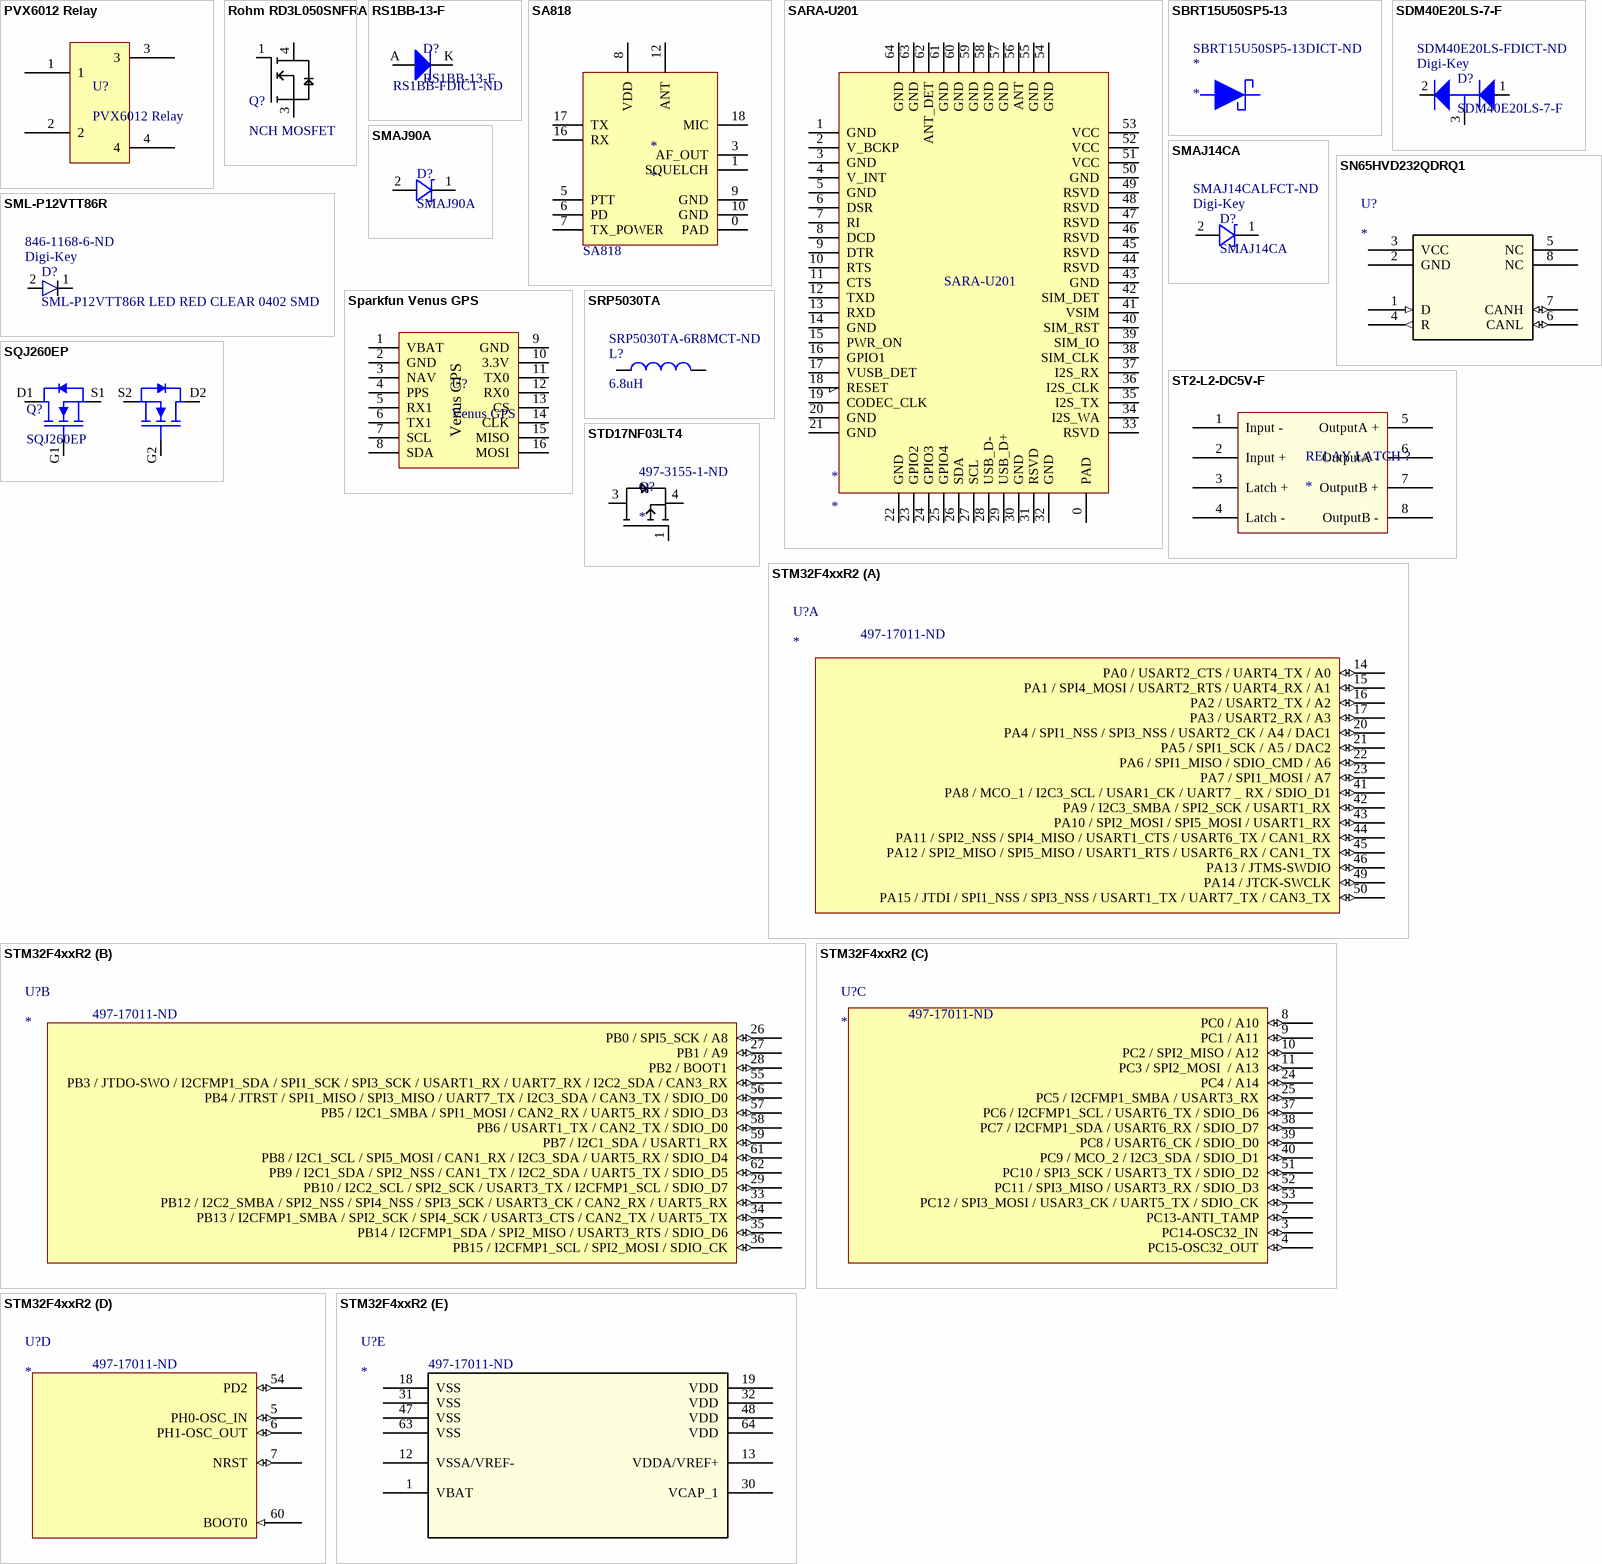
[diagram p2: symbols PVX6012 Relay to STM32F4xxR2]

## PVX6012 Relay
designator U?
IC RELAY PHOTOVO 400V 1A 14-DIP; Part Number: PVX6012PBF; Source Part Number: PVX6012PBF-ND; Source: Digi-key; Datasheet: http://www.irf.com/product-info/datasheets/data/pvx6012.pdf
footprint PVX6012 Relay (PVS6012 Relay)
pins: 1, 2, 3, 4

## Rohm RD3L050SNFRA
designator Q?, comment NCH MOSFET
AUTOMOTIVE NCH 60V 5A POWER MOSFET; ComponentLink1Description: digikey; ComponentLink1URL: https://www.digikey.com/product-detail/en/rohm-semiconductor/RD3L050SNFRATL/RD3L050SNFRATLCT-ND/9561230
footprint DPAK230P1000X230-3N (D-PAK, 3-Pads, Body 6.30x6.76mm (max), IPC Medium Density)
pins: 1, 3, 4

## RS1BB-13-F
designator D?  Supplier Part Number 1: RS1BB-FDICT-ND
Diode, 100V 1A 1.3V forward voltage; Datasheet: http://www.diodes.com/_files/datasheets/ds15002.pdf; Supplier 1: Digi-Key
footprint RS1BB-13-F
pins: A, K

## SA818
designator *  Part Number: SA818
Walkie-Talkie Module; Datasheet: http://www.dorji.com/docs/data/DRA818U.pdf
footprint SA818
pins: 0 PAD, 1 SQUELCH, 3 AF_OUT, 5 PTT, 6 PD, 7 TX_POWER, 8 VDD, 9 GND, 10 GND, 12 ANT, 16 RX, 17 TX, 18 MIC

## SARA-U201
designator *  Part Number: SARA-U201
Cellular Module
footprint SARA-U2 (Cellular Module)
pins: 0 PAD "Ground all central pads", 1 GND, 2 V_BCKP, 3 GND, 4 V_INT, 5 GND, 6 DSR, 7 RI, 8 DCD, 9 DTR, 10 RTS, 11 CTS, 12 TXD, 13 RXD, 14 GND, 15 PWR_ON, 16 GPIO1, 17 VUSB_DET, 18 RESET, 19 CODEC_CLK, 20 GND, 21 GND, 22 GND, 23 GPIO2, 24 GPIO3, 25 GPIO4, 26 SDA, 27 SCL, 28 USB_D-, 29 USB_D+, 30 GND, 31 RSVD, 32 GND, 33 RSVD, 34 I2S_WA, 35 I2S_TX, 36 I2S_CLK, 37 I2S_RX, 38 SIM_CLK, 39 SIM_IO, 40 SIM_RST, 41 VSIM, 42 SIM_DET, 43 GND, 44 RSVD, 45 RSVD, 46 RSVD, 47 RSVD, 48 RSVD, 49 RSVD, 50 GND, 51 VCC, 52 VCC, 53 VCC, 54 GND, 55 GND, 56 ANT, 57 GND, 58 GND, 59 GND, 60 GND, 61 GND, 62 ANT_DET, 63 GND, 64 GND

## SBRT15U50SP5-13
designator *  Supplier Part Number 1: SBRT15U50SP5-13DICT-ND
Supplier 1: Digi-Key
footprint SBRT15U50SP5-13
pins: 1, 2

## SDM40E20LS-7-F
designator D?  Supplier 1: Digi-Key  Supplier Part Number 1: SDM40E20LS-FDICT-ND
Diode Array 1 Pair Series Connection Schottky 20V 400mA (DC) Surface Mount SOT-23-3; ComponentLink1Description: Digikey Link; ComponentLink1URL: https://www.digikey.com/product-detail/en/diodes-incorporated/SDM40E20LS-7-F/SDM40E20LS-FDICT-ND/815980; ComponentLink2Description: Datasheet; ComponentLink2URL: https://www.diodes.com/assets/Datasheets/ds30298.pdf
footprint SOT-23-3_ SDM40E20LS-7-F (SOT23, 3-Leads, Body 2.93x2.40mm, Pitch 0.95mm, IPC Medium Density)
pins: 1, 2, 3

## SMAJ14CA
designator D?  Supplier 1: Digi-Key  Supplier Part Number 1: SMAJ14CALFCT-ND
TVS DIODE 14VWM 23.2VC SMA; Part Number: SMAJ90A-E3/61; Supplier: DigiKey; Supplier Part Number: SMAJ90A-E3/61GICT-ND; Datasheet URL: http://www.vishay.com/docs/88390/smaj50a.pdf; ComponentLink1Description: Digikey Link; ComponentLink1URL: https://www.digikey.com/product-detail/en/littelfuse-inc/SMAJ14CA/SMAJ14CALFCT-ND/762487
footprint SMAJ14CA (Molded Diode, 2-Leads, Body 4.25x2.67mm, IPC Medium Density)
pins: 1 (power), 2 (power)

## SMAJ90A
designator D?
TVS DIODE 90VWM 146VC SMA; Part Number: SMAJ90A-E3/61; Supplier: DigiKey; Supplier Part Number: SMAJ90A-E3/61GICT-ND; Datasheet URL: http://www.vishay.com/docs/88390/smaj50a.pdf
footprint SMAJ90A (Molded Diode, 2-Leads, Body 4.25x2.67mm, IPC Medium Density)
pins: 1 NPNB (oc), 2 NPNB (oc)

## SML-P12VTT86R
designator D?, comment SML-P12VTT86R LED RED CLEAR 0402 SMD  Supplier 1: Digi-Key  Supplier Part Number 1: 846-1168-6-ND
Red 630nm LED Indication - Discrete 2V 0402; Vf @ 20mA: 3.4V (typ); Derated Current: 5 mA; Color: Blue; PN: LTST-C191TBKT; ComponentLink1Description: Digikey Link; ComponentLink1URL: https://www.digikey.com/product-detail/en/rohm-semiconductor/SML-P12VTT86R/846-1168-1-ND/5011427
footprint LED 0402
pins: 1, 2

## SN65HVD232QDRQ1
designator U?
Imported; Manufacturer: Texas Instruments; Manufacturer_Part_Number: SN65HVD232QDRQ1; Built_By: EMA_UL_Team; C: Copyright (C) 2015 Accelerated Designs. All rights reserved; Vendor: Texas Instruments; RefDes: RefDes; Type: DEV; Value: Value
footprint D8
pins: 1 D (in), 2 GND (power), 3 VCC (power), 4 R (out), 5 NC, 6 CANL (io), 7 CANH (io), 8 NC

## Sparkfun Venus GPS
designator U?, comment Venus GPS
Sparkfun Venus GPS Module
footprint Sparkfun Venus GPS (Sparkfun Venus GPS Module)
pins: 1 VBAT, 2 GND, 3 NAV, 4 PPS, 5 RX1, 6 TX1, 7 SCL, 8 SDA, 9 GND, 10 3.3V, 11 TX0, 12 RX0, 13 CS, 14 CLK, 15 MISO, 16 MOSI

## SQJ260EP
designator Q?
Automotive Dual N-Channel 60 V (D-S) 175 °C MOSFETs; Supplier: Digikey; Part Number: SQJ260EP; Supplier Part Number: SQJ260EP-T1_GE3CT-ND; Datasheet URL: https://www.diodes.com/assets/Datasheets/ds30896.pdf
footprint SQJ260EP (Automotive Dual N-Channel 60 V (D-S) 175 °C MOSFETs)
pins: D1, D2, G1, G2, S1, S2

## SRP5030TA
designator L?, comment 6.8uH  Supplier Part Number 1: SRP5030TA-6R8MCT-ND
Manufacturer: Bourns Inc.; Manufacturer Part Number: SRP5030TA-6R8M; Type: Wirewound; Material - Core: Carbonyl Powder; Tolerance: ±20%; Shielding: Shielded; DC Resistance (DCR): 76.2 mOhm Max; Q @ Freq: 15 @ 100kHz; Supplier 1: Digi-Key; RoHS: RoHS Compliant; Category: Inductors, Coils, Chokes; Stock 1: 5626; Pricing 1: 1=1.51, 10=1.397, 100=0.9781, 500=0.79178, 1000=0.72191 (USD); Packaging: Cut Tape (CT); Part Status: Active; Ratings: AEC-Q200; Operating Temperature: -40°C ~ 150°C; Mounting Type: Surface Mount; Package / Case: Nonstandard; Supplier Device Package: -; Size / Dimension: 0.224" L x 0.205" W (5.70mm x 5.20mm); Height - Seated (Max): 0.118" (3.00mm); ComponentLink1URL: http://www.bourns.com/docs/Product-Datasheets/SRP5030TA.pdf; ComponentLink1Description: http://www.bourns.com/docs/Product-Datasheets/SRP5030TA.pdf
footprint BOURNS SRP5030T (Precision Wire Wound Inductor, 2-Leads, Body 5.70x5.20mm, IPC Medium Density)
pins: 1, 2

## ST2-L2-DC5V-F
designator RELAY LATCH ?
footprint ST2-L2-DC5V-F
pins: 1 Input -, 2 Input +, 3 Latch +, 4 Latch -, 5 OutputA +, 6 OutputA -, 7 OutputB +, 8 OutputB -

## STD17NF03LT4
designator Q?  Supplier Part Number 1: 497-3155-1-ND
MOSFET N-CH 30V 17A DPAK; Supplier 1: Digi-Key
footprint DPAK228P972X240-3N (D-PAK, 3-Pads, Body 6.20x6.66mm (max), IPC Medium Density)
pins: 1, 3, 4

## STM32F4xxR2
designator U?  Supplier Part Number 1: 497-17011-ND
Imported; Manufacturer_Part_Number: stm32f4xxr2; Vendor: STMicroelectronics; C: Copyright (C) 2016 Accelerated Designs. All rights reserved; Copyright: Copyright (C) 2016 Accelerated Designs. All rights reserved; RefDes: RefDes; Type: Type; Value: Value; Supplier 1: Digi-Key
footprint LQFP64-10x10mm
part A pins: 14 PA0 / USART2_CTS / UART4_TX / A0 (io), 15 PA1 / SPI4_MOSI / USART2_RTS / UART4_RX / A1 (io), 16 PA2 / USART2_TX / A2 (io), 17 PA3 / USART2_RX / A3 (io), 20 PA4 / SPI1_NSS / SPI3_NSS / USART2_CK / A4 / DAC1 (io), 21 PA5 / SPI1_SCK / A5 / DAC2 (io), 22 PA6 / SPI1_MISO / SDIO_CMD / A6 (io), 23 PA7 / SPI1_MOSI / A7 (io), 41 PA8 / MCO_1 / I2C3_SCL / USAR1_CK / UART7 _ RX / SDIO_D1 (io), 42 PA9 / I2C3_SMBA / SPI2_SCK / USART1_RX (io), 43 PA10 / SPI2_MOSI / SPI5_MOSI / USART1_RX (io), 44 PA11 / SPI2_NSS / SPI4_MISO / USART1_CTS / USART6_TX / CAN1_RX (io), 45 PA12 / SPI2_MISO / SPI5_MISO / USART1_RTS / USART6_RX / CAN1_TX (io), 46 PA13 / JTMS-SWDIO (io), 49 PA14 / JTCK-SWCLK (io), 50 PA15 / JTDI / SPI1_NSS / SPI3_NSS / USART1_TX / UART7_TX / CAN3_TX (io)
part B pins: 26 PB0 / SPI5_SCK / A8 (io), 27 PB1 / A9 (io), 28 PB2 / BOOT1 (io), 29 PB10 / I2C2_SCL / SPI2_SCK / USART3_TX / I2CFMP1_SCL / SDIO_D7 (io), 33 PB12 / I2C2_SMBA / SPI2_NSS / SPI4_NSS / SPI3_SCK / USART3_CK / CAN2_RX / UART5_RX (io), 34 PB13 / I2CFMP1_SMBA / SPI2_SCK / SPI4_SCK / USART3_CTS / CAN2_TX / UART5_TX (io), 35 PB14 / I2CFMP1_SDA / SPI2_MISO / USART3_RTS / SDIO_D6 (io), 36 PB15 / I2CFMP1_SCL / SPI2_MOSI / SDIO_CK (io), 55 PB3 / JTDO-SWO / I2CFMP1_SDA / SPI1_SCK / SPI3_SCK / USART1_RX / UART7_RX / I2C2_SDA / CAN3_RX (io), 56 PB4 / JTRST / SPI1_MISO / SPI3_MISO / UART7_TX / I2C3_SDA / CAN3_TX / SDIO_D0 (io), 57 PB5 / I2C1_SMBA / SPI1_MOSI / CAN2_RX / UART5_RX / SDIO_D3 (io), 58 PB6 / USART1_TX / CAN2_TX / SDIO_D0 (io), 59 PB7 / I2C1_SDA / USART1_RX (io), 61 PB8 / I2C1_SCL / SPI5_MOSI / CAN1_RX / I2C3_SDA / UART5_RX / SDIO_D4 (io), 62 PB9 / I2C1_SDA / SPI2_NSS / CAN1_TX / I2C2_SDA / UART5_TX / SDIO_D5 (io)
part C pins: 2 PC13-ANTI_TAMP (io), 3 PC14-OSC32_IN (io), 4 PC15-OSC32_OUT (io), 8 PC0 / A10 (io), 9 PC1 / A11 (io), 10 PC2 / SPI2_MISO / A12 (io), 11 PC3 / SPI2_MOSI  / A13 (io), 24 PC4 / A14 (io), 25 PC5 / I2CFMP1_SMBA / USART3_RX (io), 37 PC6 / I2CFMP1_SCL / USART6_TX / SDIO_D6 (io), 38 PC7 / I2CFMP1_SDA / USART6_RX / SDIO_D7 (io), 39 PC8 / USART6_CK / SDIO_D0 (io), 40 PC9 / MCO_2 / I2C3_SDA / SDIO_D1 (io), 51 PC10 / SPI3_SCK / USART3_TX / SDIO_D2 (io), 52 PC11 / SPI3_MISO / USART3_RX / SDIO_D3 (io), 53 PC12 / SPI3_MOSI / USAR3_CK / UART5_TX / SDIO_CK (io)
part D pins: 5 PH0-OSC_IN (io), 6 PH1-OSC_OUT (io), 7 NRST (io), 54 PD2 (io), 60 BOOT0 (in)
part E pins: 1 VBAT (power), 12 VSSA/VREF- (power), 13 VDDA/VREF+ (power), 18 VSS (power), 19 VDD (power), 30 VCAP_1 (power), 31 VSS (power), 32 VDD (power), 47 VSS (power), 48 VDD (power), 63 VSS (power), 64 VDD (power)

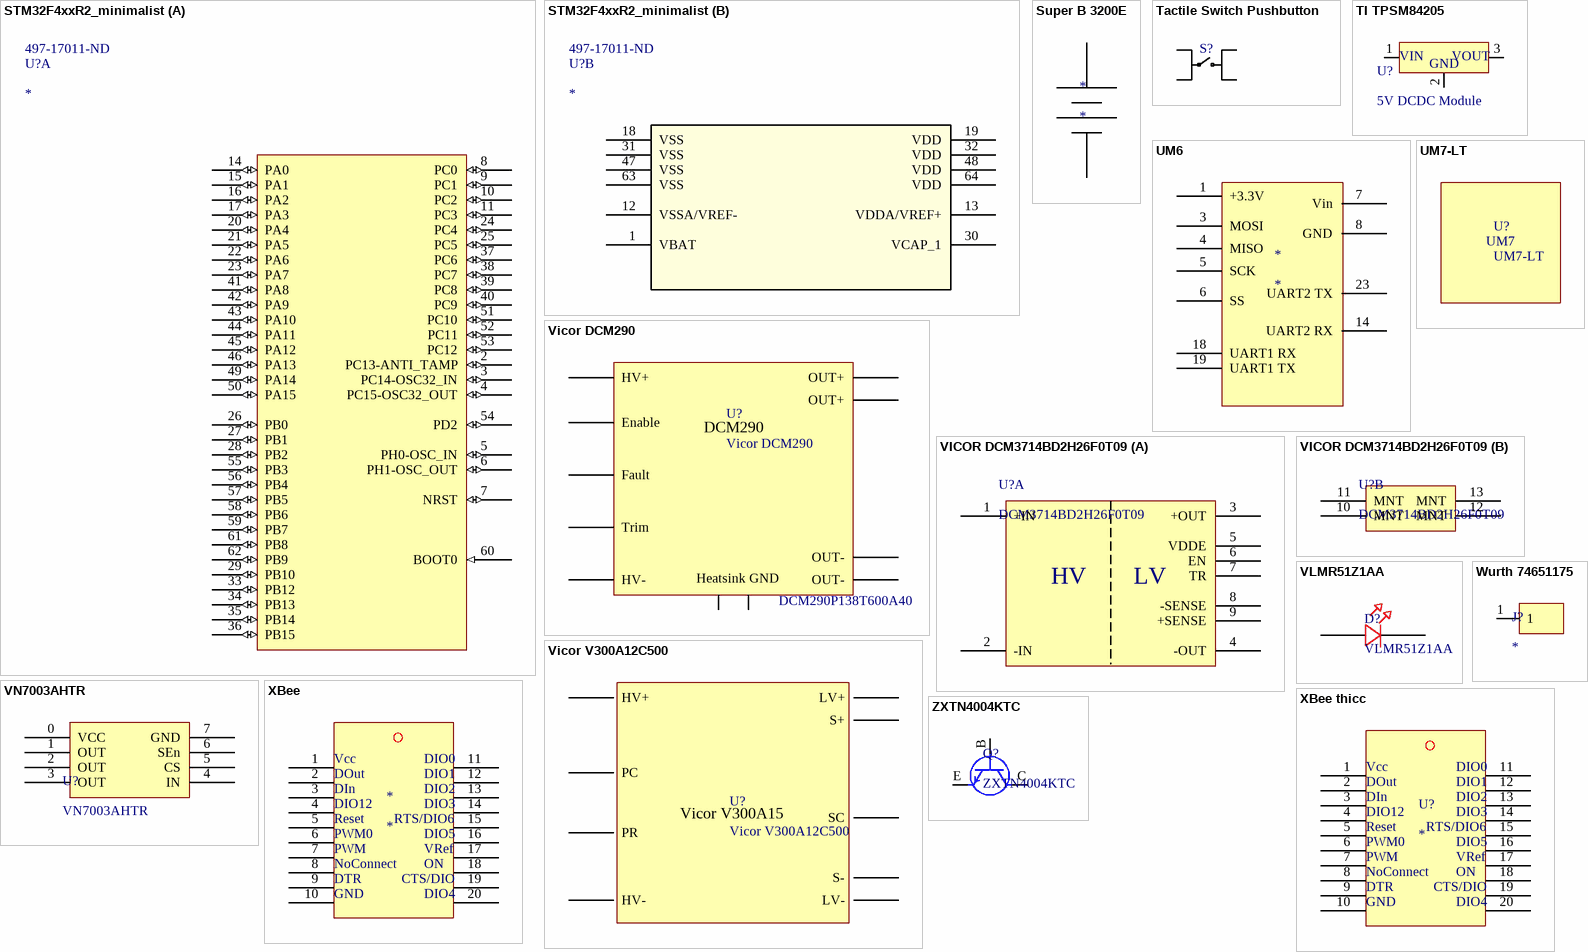
[diagram p3: symbols STM32F4xxR2_minimalist to ZXTN4004KTC]

## STM32F4xxR2_minimalist
designator U?  Supplier Part Number 1: 497-17011-ND
Imported; Manufacturer_Part_Number: stm32f4xxr2; Vendor: STMicroelectronics; C: Copyright (C) 2016 Accelerated Designs. All rights reserved; Copyright: Copyright (C) 2016 Accelerated Designs. All rights reserved; RefDes: RefDes; Type: Type; Value: Value; Supplier 1: Digi-Key
footprint LQFP64-10x10mm
part A pins: 2 PC13-ANTI_TAMP (io), 3 PC14-OSC32_IN (io), 4 PC15-OSC32_OUT (io), 5 PH0-OSC_IN (io), 6 PH1-OSC_OUT (io), 7 NRST (io), 8 PC0 (io), 9 PC1 (io), 10 PC2 (io), 11 PC3 (io), 14 PA0 (io), 15 PA1 (io), 16 PA2 (io), 17 PA3 (io), 20 PA4 (io), 21 PA5 (io), 22 PA6 (io), 23 PA7 (io), 24 PC4 (io), 25 PC5 (io), 26 PB0 (io), 27 PB1 (io), 28 PB2 (io), 29 PB10 (io), 33 PB12 (io), 34 PB13 (io), 35 PB14 (io), 36 PB15 (io), 37 PC6 (io), 38 PC7 (io), 39 PC8 (io), 40 PC9 (io), 41 PA8 (io), 42 PA9 (io), 43 PA10 (io), 44 PA11 (io), 45 PA12 (io), 46 PA13 (io), 49 PA14 (io), 50 PA15 (io), 51 PC10 (io), 52 PC11 (io), 53 PC12 (io), 54 PD2 (io), 55 PB3 (io), 56 PB4 (io), 57 PB5 (io), 58 PB6 (io), 59 PB7 (io), 60 BOOT0 (in), 61 PB8 (io), 62 PB9 (io)
part B pins: 1 VBAT (power), 12 VSSA/VREF- (power), 13 VDDA/VREF+ (power), 18 VSS (power), 19 VDD (power), 30 VCAP_1 (power), 31 VSS (power), 32 VDD (power), 47 VSS (power), 48 VDD (power), 63 VSS (power), 64 VDD (power)

## Super B 3200E
designator *
footprint Super B 3200 Terminals (Plated mounting holes to place on top of Super B 3200 and screw onto it. M5 Screws, 3.072" center-to-center spacing)
pins: 1 Negative, 2 Positive

## Tactile Switch Pushbutton
designator S?
footprint Tactile Switch Pushbutton
pins: 1, 2, 3, 4

## TI TPSM84205
designator U?, comment 5V DCDC Module
ComponentLink1Description: digikey; ComponentLink1URL: https://www.digikey.com/product-detail/en/texas-instruments/TPSM84205EAB/296-47074-ND/7561620
footprint TPSM84205
pins: 1, 2, 3
text: VIN; VOUT; GND

## UM6
designator *
footprint UM6
pins: 1 +3.3V, 3 MOSI, 4 MISO, 5 SCK, 6 SS, 7 Vin, 8 GND, 14 UART2 RX, 18 UART1 RX, 19 UART1 TX, 23 UART2 TX

## UM7-LT
designator U?
UM7-LT Orientation Sensor; Manufacturer: CHRobotics; Part Number: UM7-LT; Datasheet: https://www.chrobotics.com/docs/UM7_Datasheet.pdf; Created By: ayabroud
footprint UM7-LT (UM7-LT Orientation Sensor)
text: UM7

## Vicor DCM290
designator U?  Manufacturer Part Number: DCM290P138T600A40
Vicor DCM290 DC/DC Converter, 13.8V Nominal Output, 600W; Input Voltage: 160V - 420V (for 500W output); Manufacturer: Vicor; Datasheet: http://www.vicorpower.com/documents/datasheets/ds_DCM290y138x600A40.pdf; Supplier 1: Digi-Key; Supplier Part Number 1: 1102-5388-ND; Output Voltage: 13.8V; Max Power: 600W
footprint Vicor DCM290 (DC-DC Converter)
pins: EN Enable, FT Fault, IN+ HV+ (power), IN- HV- (power), M5, M6, OUT+_1 OUT+, OUT+_2 OUT+, OUT-_1 OUT-, OUT-_2 OUT-, TR Trim
text: DCM290; Heatsink GND

## VICOR DCM3714BD2H26F0T09
designator U?, comment DCM3714BD2H26F0T09
Isolated Module DC DC Converter 1 Output 24V 25A 200V - 420V Input; Manufacturer 1: Vicor; Number of Outputs: 1; Isolation Voltage: 2.121kV; Efficiency: 93%; Max Power Dissipation: 600W; Supplier 1: Digi-Key; Supplier Part Number 1: 1102-5548-ND; Manufacturer Part Number 1: DCM3714BD2H26F0T09; Stock 1: 114; Pricing 1: 1=500.03, 10=475.025 (USD); Mount: Through Hole; Min Operating Temperature: -40°C; Max Operating Temperature: 125°C; Packaging: Box; Min Input Voltage: 200V; Max Input Voltage: 420V; Voltage - Output 1: 24V; Max Output Current: 25A; Features: UVLO,OVP; Length: 3.83inch; Height: 0.37inch; Width: 1.4inch; Lead Free: Lead Free
footprint DCM3714BD2H26F0T09
part A pins: 1 +IN, 2 -IN, 3 +OUT, 4 -OUT, 5 VDDE, 6 EN, 7 TR, 8 -SENSE, 9 +SENSE
part B pins: 10 MNT, 11 MNT, 12 MNT, 13 MNT
part A text: HV; LV

## Vicor V300A12C500
designator U?
Manufacturer: Vicor Corporation; Manufacturer Part Number: V300A12C500BL; Number of Outputs: 1; Voltage - Input (Min): 180V; Voltage - Input (Max): 375V; Voltage - Output 1: 12V; Current - Output (Max): 41.67A; Power (Watts): 500W; Voltage - Isolation: 3kV (3000V); Efficiency: 86%; Supplier 1: Digi-Key; RoHS: RoHS non-compliant; Category: Power Supplies - Board Mount; Stock 1: 5; Pricing 1: 1=299.93, 10=290.25 (USD); Packaging: Bulk; Part Status: Active; Type: Isolated Module; Voltage - Output 2: -; Voltage - Output 3: -; Applications: ITE (Commercial); Features: OVP, UVLO; Operating Temperature: -20°C ~ 100°C; Mounting Type: Through Hole; Package / Case: Full Brick; Size / Dimension: 4.60" L x 2.20" W x 0.62" H (116.8mm x 55.9mm x 15.7mm); ComponentLink1URL: http://cdn.vicorpower.com/documents/datasheets/ds_300vin-maxi-family.pdf; ComponentLink1Description: http://cdn.vicorpower.com/documents/datasheets/ds_300vin-maxi-family.pdf; Supplier Part Number 1: 1102-1316-ND
footprint VICOR V300A12C500
pins: HV+ (power), HV- (power), LV+, LV-, PC, PR, S+, S-, SC
text: Vicor V300A15

## VLMR51Z1AA
designator D?
Manufacturer: Vishay; Part Number: VLMR51Z1AA; Supplier 1: Digi-Key; Supplier Part Number 1: VLMR51Z1AA-GS08TR-ND; Datasheet: http://www.vishay.com/docs/83419/vlmr51.pdf
footprint VLMR51Z1AA (VLMR51Z1AA SMT LED)
pins: 1, 2

## VN7003AHTR
designator U?
IC PWR SWITCH N-CH 1:1 OCTAPACK; Manufacturer: STMicroelectronics; Manufacturer Part #: VN7003AHTR; Supplier: Digikey; Supplier Part #: 497-16716-6-ND
footprint OCTAPAK-7+1
pins: 0 VCC, 1 OUT, 2 OUT, 3 OUT, 4 IN, 5 CS, 6 SEn, 7 GND

## Wurth 74651175
designator J?
Screw Connector Terminal, M5 bolt threading; Maunfacturer: Wurth; Current Rating: 50A; Bolt Threading: M6; Supplier 1: Digi-Key; Supplier Part Number 1: 732-10906-1-ND; Mounting Type: Through Hole; Contact Finish: Tin; Contact Material: Brass; Number of Pins: 4
footprint 74651175
pins: 1

## XBee
designator *
XBee
footprint Xbee
pins: 1, 2, 3, 4, 5, 6, 7, 8, 9, 10, 11, 12, 13, 14, 15, 16, 17, 18, 19, 20
text: Vcc; DIO0; DOut; DIO1; DIn; DIO2; DIO12; DIO3; Reset; RTS/DIO6; PWM0; DIO5; PWM; VRef; NoConnect; ON; DTR; CTS/DIO; GND; DIO4

## XBee thicc
designator U?
XBee
footprint Xbee - thiccc
pins: 1, 2, 3, 4, 5, 6, 7, 8, 9, 10, 11, 12, 13, 14, 15, 16, 17, 18, 19, 20
text: Vcc; DIO0; DOut; DIO1; DIn; DIO2; DIO12; DIO3; Reset; RTS/DIO6; PWM0; DIO5; PWM; VRef; NoConnect; ON; DTR; CTS/DIO; GND; DIO4

## ZXTN4004KTC
designator Q?
TRANS NPN 150V 1A TO252; Supplier: DigiKey; Part Number: ZXTN4004KTC; Supplier Part Number: ZXTN4004KTCDICT-ND; Data Sheet URL: http://www.diodes.com/_files/datasheets/ZXTN4004K.pdf
footprint ZXTN4004KTC (D-PAK, 3-Pads, Body 6.20x6.65mm (max), IPC Medium Density)
pins: B, C, E